# Altium schematic symbol library RES,Trim,15T,100k,0.75W,Side-Adj,Thru.Schlib: 1 symbol
Pins are listed as number, name and electrical type; pins without a type are passive.

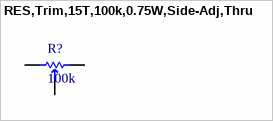
[diagram p0: symbol RES,Trim,15T,100k,0.75W,Side-Adj,Thru]

## RES,Trim,15T,100k,0.75W,Side-Adj,Thru
designator R?, comment 100k
100 kOhms 0.75W, 3/4W PC Pins Through Hole Trimmer Potentiometer Cermet 15 Turn Side Adjustment
pins: 1, 1, 2